# Altium schematic symbol library SN74LVC1T45DCKR.SchLib: 1 symbol
Pins are listed as number, name and electrical type; pins without a type are passive.

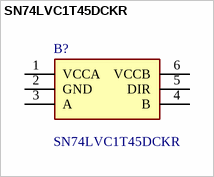
[diagram p0: symbol SN74LVC1T45DCKR]

## SN74LVC1T45DCKR
designator B?
Texas Instruments SN74LVC1T45DCKR, Bus Transceiver Non-Inverting LVTTL, 1.65  5.5 V, 6-Pin SC-70; Geometry.Height: 1.1mm; Manufacturer_Name: Texas Instruments; Manufacturer_Part_Number: SN74LVC1T45DCKR; Mouser Part Number: 595-SN74LVC1T45DCKR; Mouser Price/Stock: https://www.mouser.co.uk/ProductDetail/Texas-Instruments/SN74LVC1T45DCKR?qs=gb35HGp1gQLgs5JLyVnp7g%3D%3D; Arrow Part Number: SN74LVC1T45DCKR; Arrow Price/Stock: https://www.arrow.com/en/products/sn74lvc1t45dckr/texas-instruments?region=nac; Datasheet Link: http://www.ti.com/lit/gpn/sn74lvc1t45
footprint SOT65P210X110-6N
pins: 1 VCCA, 2 GND, 3 A, 4 B, 5 DIR, 6 VCCB